# EAGLE library part PA3011 (library Audio-Power-amlifier V.2.0)
UNISONIC TECHNOLOGIES As a stereo audio speaker which is operating on a single 5.5V supply, the UTC PA3011 is capable of delivering 3W of output power per channel into 3Ω loads with less than 10% THD+N. The speaker volume level is adjusted by applying a dc voltage to the VOLUME terminal. When a dc voltage is applied, to avoid an unexpected high volume level through the headphones, a third terminal, SEMAX, limits the headphone volume level. And also a fade mode ramps the volume up and down to ensure a smooth transition between active and shutdown modes,. The UTC PA3011 can be applicatated in notebook, LCD monitors and pocket PC.
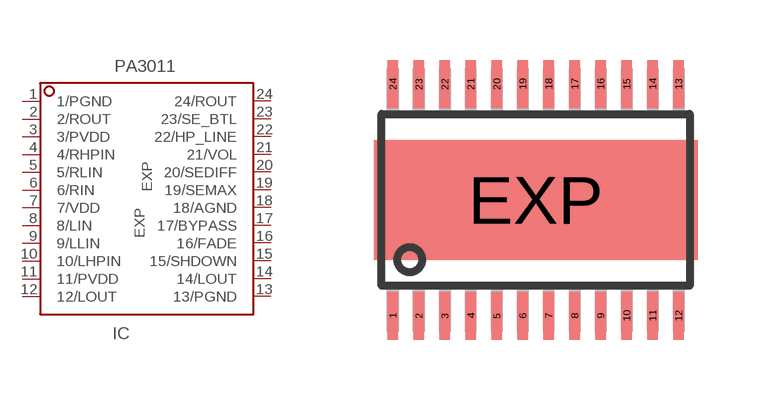
[diagram p92: symbol with the pads of HTSSOP24; footprint HTSSOP24]

Designator prefix IC

## PA3011  [HTSSOP24]
1  1/PGND
2  2/ROUT
3  3/PVDD
4  4/RHPIN
5  5/RLIN
6  6/RIN
7  7/VDD
8  8/LIN
9  9/LLIN
10  10/LHPIN
11  11/PVDD
12  12/LOUT
13  13/PGND
14  14/LOUT
15  15/SHDOWN
16  16/FADE
17  17/BYPASS
18  18/AGND
19  19/SEMAX
20  20/SEDIFF
21  21/VOL
22  22/HP_LINE
23  23/SE_BTL
24  24/ROUT
EXP  EXP

## Footprint HTSSOP24 (pad centres in mm)
HTSSOP24
smd 0.27 x 1.2: 1 -3.575,-2.9; 2 -2.925,-2.9; 3 -2.275,-2.9; 4 -1.625,-2.9; 5 -0.975,-2.9; 6 -0.325,-2.9; 7 0.325,-2.9; 8 0.975,-2.9; 9 1.625,-2.9; 10 2.275,-2.9; 11 2.925,-2.9; 12 3.575,-2.9; 13 3.575,2.9; 14 2.925,2.9; 15 2.275,2.9; 16 1.625,2.9; 17 0.975,2.9; 18 0.325,2.9; 19 -0.325,2.9; 20 -0.975,2.9; 21 -1.625,2.9; 22 -2.275,2.9; 23 -2.925,2.9; 24 -3.575,2.9
smd 8.1 x 3: EXP 0,0